# Altium schematic symbol library Capacitors-Film.SchLib: 1 symbol
Pins are listed as number, name and electrical type; pins without a type are passive.

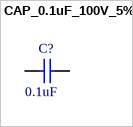
[diagram p0: symbol CAP_0.1uF_100V_5%]

## CAP_0.1uF_100V_5%
designator C?, comment value 0.1uF  (hidden comment: 0.1uF 100V)
0.1uF 100V 5%; PartNumber: MKP2D031001F00JI00; Manufacturer: WIMA; Mounting Technology: Through Hole; Voltage: 100V; Tolerance: 5%
footprint CAP-FILM[5x7.2]
pins: 1, 2